# Altium schematic symbol library RGB.SchLib: 1 symbol
Pins are listed as number, name and electrical type; pins without a type are passive.

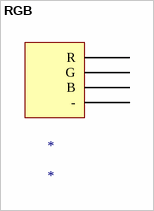
[diagram p0: symbol RGB]

## RGB
designator *
pins: 12 R, 13 G, 14 B, 15 - (power)